# EAGLE library part JST-XH-10 (library con-JST-XH)
JST-XH 4-way vertical TH
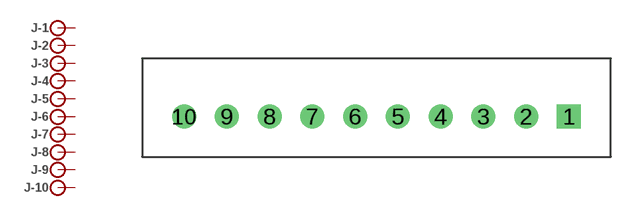
[diagram p2: symbol with the pads of B10B-XH-A; footprint B10B-XH-A]

Designator prefix J; gates -1=PIN -2=PIN -3=PIN -4=PIN -5=PIN -6=PIN -7=PIN -8=PIN -9=PIN -10=PIN

## JST-XH-10 (MF: JST; MPN: B10B-XH-A)  [B10B-XH-A]
1  -1:P
2  -2:P
3  -3:P
4  -4:P
5  -5:P
6  -6:P
7  -7:P
8  -8:P
9  -9:P
10  -10:P

## Footprint B10B-XH-A (pad centres in mm)
JST-XH (2.5mm) 10-pin through-hole vertical Wire-Board Connector
drill 0.9 square: 1 11.25,0
drill 0.9: 2 8.75,0; 3 6.25,0; 4 3.75,0; 5 1.25,0; 6 -1.25,0; 7 -3.75,0; 8 -6.25,0; 9 -8.75,0; 10 -11.25,0